# Altium schematic symbol library SCH - ARM CORTEX - NXP LPC844M201JBD64.SchLib: 1 symbol
Pins are listed as number, name and electrical type; pins without a type are passive.

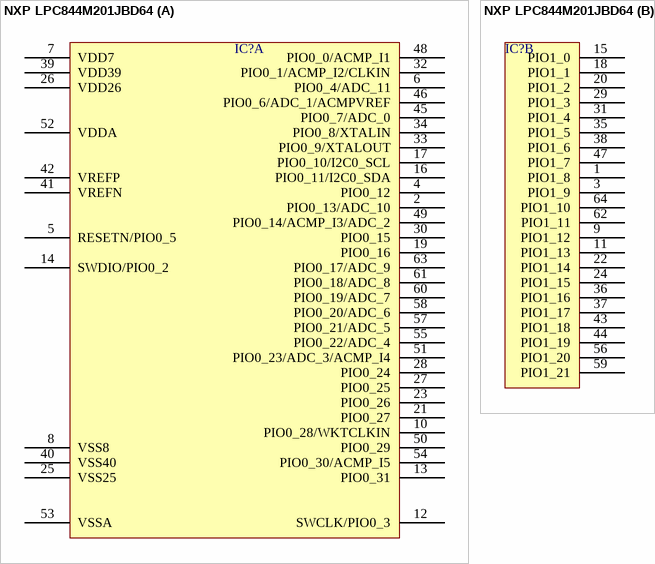
[diagram p0: symbol NXP LPC844M201JBD64]

## NXP LPC844M201JBD64
designator IC?  (value not drawn)
part A pins: 2 PIO0_13/ADC_10, 4 PIO0_12, 5 RESETN/PIO0_5, 6 PIO0_4/ADC_11, 7 VDD7, 8 VSS8, 10 PIO0_28/WKTCLKIN, 12 SWCLK/PIO0_3, 13 PIO0_31, 14 SWDIO/PIO0_2, 16 PIO0_11/I2C0_SDA, 17 PIO0_10/I2C0_SCL, 19 PIO0_16, 21 PIO0_27, 23 PIO0_26, 25 VSS25, 26 VDD26, 27 PIO0_25, 28 PIO0_24, 30 PIO0_15, 32 PIO0_1/ACMP_I2/CLKIN, 33 PIO0_9/XTALOUT, 34 PIO0_8/XTALIN, 39 VDD39, 40 VSS40, 41 VREFN, 42 VREFP, 45 PIO0_7/ADC_0, 46 PIO0_6/ADC_1/ACMPVREF, 48 PIO0_0/ACMP_I1, 49 PIO0_14/ACMP_I3/ADC_2, 50 PIO0_29, 51 PIO0_23/ADC_3/ACMP_I4, 52 VDDA, 53 VSSA, 54 PIO0_30/ACMP_I5, 55 PIO0_22/ADC_4, 57 PIO0_21/ADC_5, 58 PIO0_20/ADC_6, 60 PIO0_19/ADC_7, 61 PIO0_18/ADC_8, 63 PIO0_17/ADC_9
part B pins: 1 PIO1_8, 3 PIO1_9, 9 PIO1_12, 11 PIO1_13, 15 PIO1_0, 18 PIO1_1, 20 PIO1_2, 22 PIO1_14, 24 PIO1_15, 29 PIO1_3, 31 PIO1_4, 35 PIO1_5, 36 PIO1_16, 37 PIO1_17, 38 PIO1_6, 43 PIO1_18, 44 PIO1_19, 47 PIO1_7, 56 PIO1_20, 59 PIO1_21, 62 PIO1_11, 64 PIO1_10